# Altium integrated library AT24C04C-SSPD-T.IntLib: 1 symbol
Pins are listed as number, name and electrical type; pins without a type are passive.

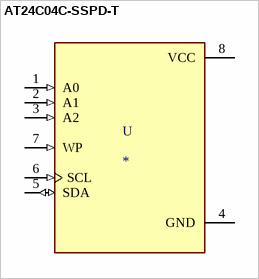
[diagram p0: symbol AT24C04C-SSPD-T]

## AT24C04C-SSPD-T
designator U
EEPROM Memory IC 4Kb _512 x 8_ IÂ²C 400kHz 900ns 8-SOIC; MF: Microchip Technology; MP: AT24C04C-SSPD-T; Value: *; SnapEDA_Link: https://www.snapeda.com/parts/AT24C04C-SSPD-T/Microchip/view-part/3611049/?ref=snap; Availability: Unavailable; Package: SOIC-8 Microchip Technology; Price: None
footprint SOIC127P600X175-8N
pins: 1 A0 (in), 2 A1 (in), 3 A2 (in), 4 GND (power), 5 SDA (io), 6 SCL (in), 7 WP (in), 8 VCC (power)